# EAGLE library part TPS630XX (library alienflight)
Buck/Boost Converter TPS63001/2 Datasheet <http://www.ti.com/lit/ds/symlink/tps63001.pdf> Author: Lance Source: http://alienflight.com License: CC BY SA <creativecommons.org/licenses/by-sa/4.0/>
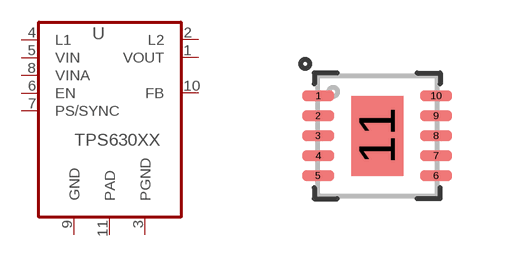
[diagram p0: symbol with the pads of VSON-N10; footprint VSON-N10]

Designator prefix U

## TPS630XX-TPS63001 (MF: TI; MPN: TPS63001DRCR; VALUE: TPS63001)  [VSON-N10]
1  VOUT
2  L2
3  PGND
4  L1
5  VIN
6  EN
7  PS/SYNC
8  VINA
9  GND
10  FB
11  PAD

## TPS630XX-TPS63002 (MF: TI; MPN: TPS63002DRCR; VALUE: TPS63002)  [VSON-N10]
Pads as for VSON-N10

## Footprint VSON-N10 (pad centres in mm)
TPS630XX Buck/Boost Converter View Datasheet <http://www.ti.com/lit/ds/symlink/tps63001.pdf>
smd 0.8 x 0.26: 1 -1.475,1; 2 -1.475,0.5; 3 -1.475,0; 4 -1.475,-0.5; 5 -1.475,-1; 6 1.475,-1; 7 1.475,-0.5; 8 1.475,0; 9 1.475,0.5; 10 1.475,1
smd 1.3 x 2: 11 0,0